# Altium schematic symbol library Crystal-Molvik.SchLib: 2 symbols
Pins are listed as number, name and electrical type; pins without a type are passive.

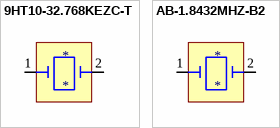
[diagram p0: symbols 9HT10-32.768KEZC-T to AB-1.8432MHZ-B2]

## 9HT10-32.768KEZC-T
designator *
Crystal 32.768kHz, SMD, 3.2mm x 1.5mm, 9pF, 10 ppm
footprint PCBComponent_1
pins: 1 2, 2

## AB-1.8432MHZ-B2
designator *
Crystal 1.8432MHz
footprint PCBComponent_1
pins: 1 2, 2